# Altium integrated library Linear Technology PMIC-Switching Reg LTC1174-LTC3901.IntLib: 2647 symbols (part 60 of 310)
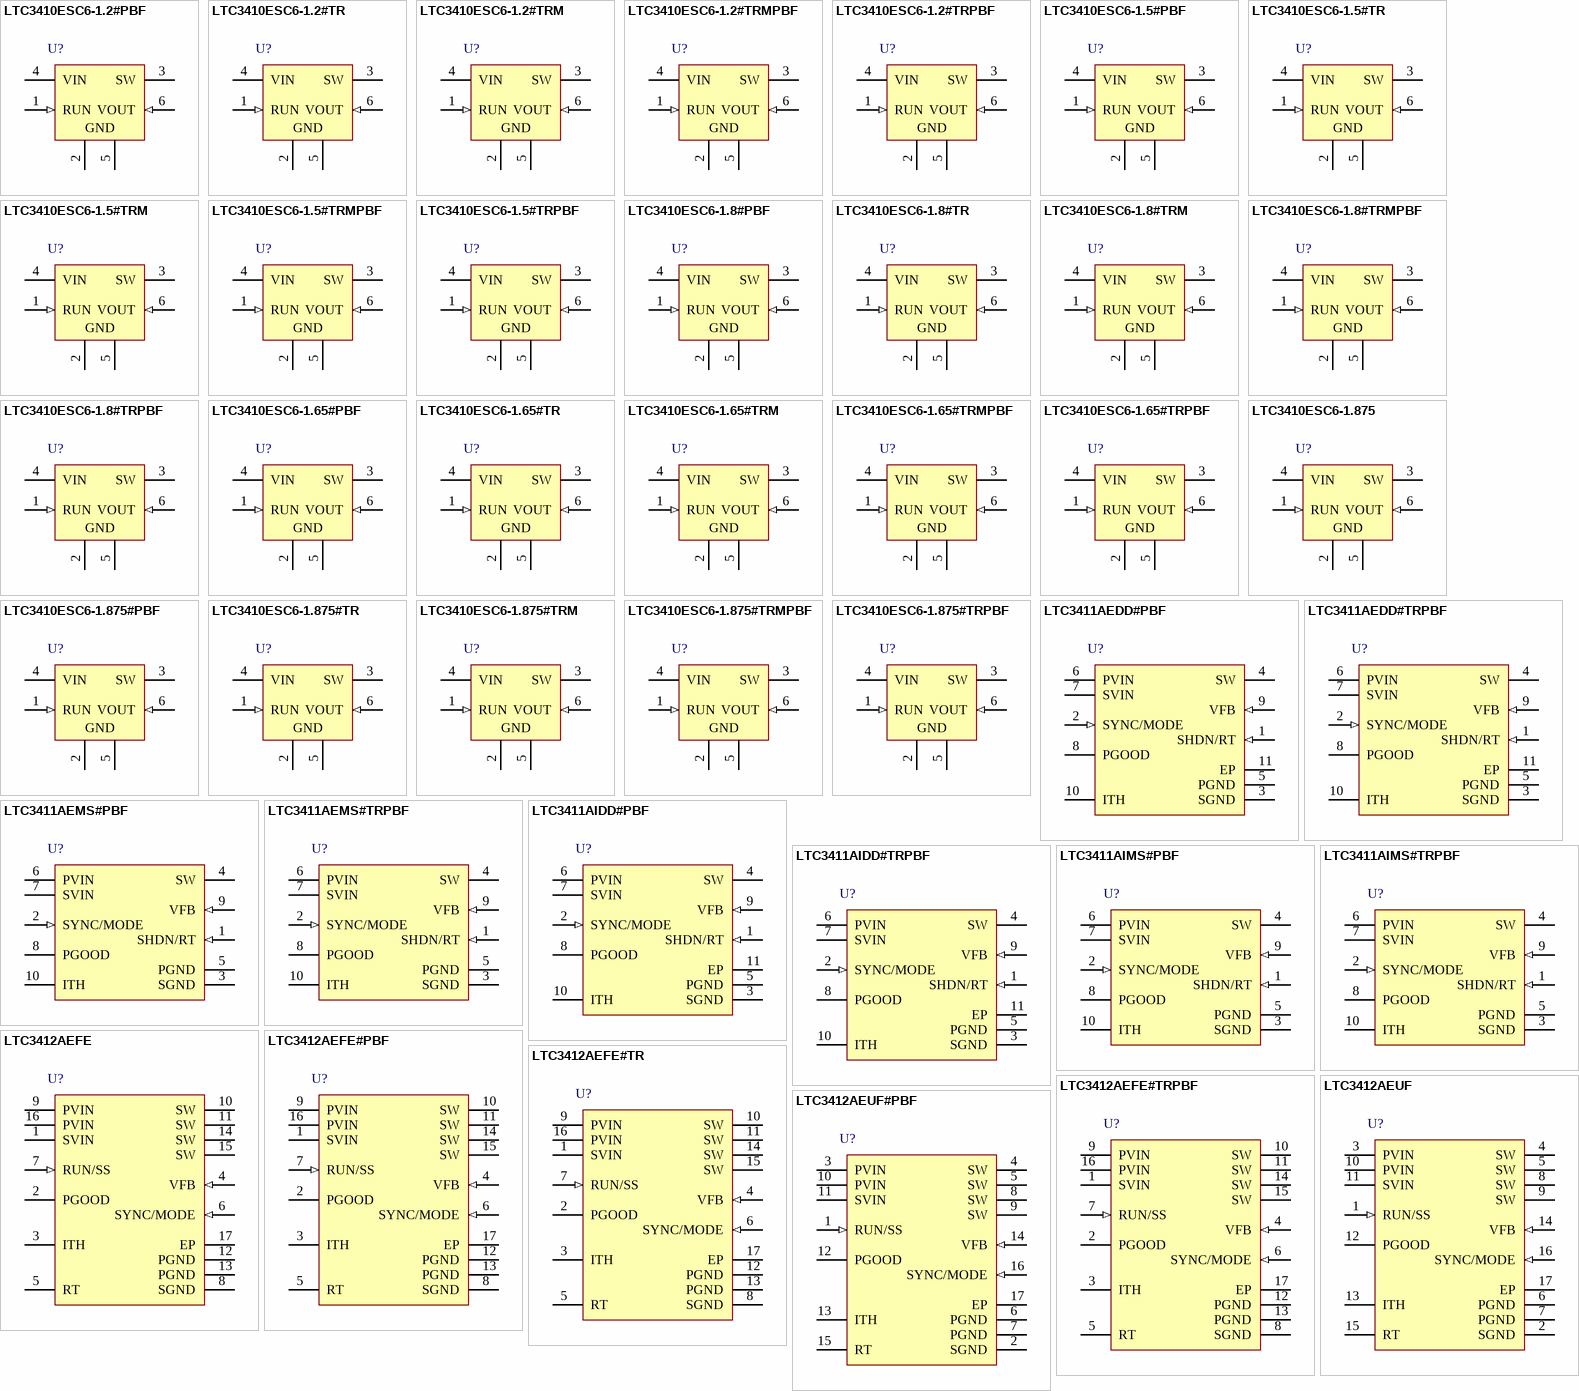
[diagram p250: symbols LTC3410ESC6-1.2#PBF to LTC3412AEUF#PBF]

## LTC3412AEFE#TR
designator U?
3 A, 4 MHz, Monolithic Synchronous Step-Down Regulator, 16-pin SOP (FE-16-EPV-BA), -40 to 125 degC, Tape and Reel; Manufacturer: Linear Technology; PartNumber: LTC3412AEFE#TR; Number of Outputs: 1; PackageReference: FE-16; PackageDescription: 16-Pin Plastic TSSOP, Body 5 x 4.4 mm, Pitch 0.65 mm; Supplier 1: Newark; Supplier Part Number 1: 58M0738; RoHS: FALSE
footprint LT-FE-16-EPV-BA_N (SOP, 16-Leads, Body 5x4.4mm, Pitch 0.65mm, Thermal Pad 2.74x2.74mm, IPC Medium Density)
footprint LT-FE-16-EPV-BA_L (SOP, 16-Leads, Body 5x4.4mm, Pitch 0.65mm, Thermal Pad 2.74x2.74mm, IPC High Density)
footprint LT-FE-16-EPV-BA_M (SOP, 16-Leads, Body 5x4.4mm, Pitch 0.65mm, Thermal Pad 2.74x2.74mm, IPC Low Density)
pins: 1 SVIN (power) "Signal Input Supply. Decouple this pin to SGND with a capacitor.", 2 PGOOD (oc) "Power Good Output. Open-drain logic output that is pulled to ground when the output voltage is not within +/-7.5% of regulation point.", 3 ITH "Error Amplifier Compensation Point. The current comparator threshold increases with this control voltage. Nominal voltage range for this pin is from 0.2V to 1.4V with 0.4V corresponding to the zero-sense voltage (zero (See Datasheet)", 4 VFB (in) "Feedback Pin. Receives the feedback voltage from a resistive divider connected across the output.", 5 RT "Oscillator Resistor Input. Connecting a resistor to ground from this pin sets the switching frequency", 6 SYNC/MODE (in) "Mode Select and External Clock Synchronization Input. To select forced continuous, tie to SVIN. Connecting this pin to a voltage between 0V and 1V selects Burst Mode operation with the burst clamp set to the pin voltage.", 7 RUN/SS (in) "Run Control and Soft-Start Input. Forcing this pin below 0.5V shuts down the LTC3412A. In shutdown all functions are disabled drawing <1uA of  supply current. A capacitor to ground from this pin sets the ramp time to full (See Datasheet)", 8 SGND (power) "Signal Ground. All small-signal components, compensation components and the exposed pad on the bottom side of the IC should connect to this ground, which in turn connects to PGND at one point.", 9 PVIN (power) "Power Input Supply. Decouple this pin to PGND with a capacitor", 10 SW (power) "Switch Node Connection to the Inductor. This pin connects to the drains of the internal main and synchronous power MOSFET switches.", 11 SW (power) "Switch Node Connection to the Inductor. This pin connects to the drains of the internal main and synchronous power MOSFET switches.", 12 PGND (power) "Power Ground. Connect this pin close to the (-) terminal of CIN and COUT.", 13 PGND (power) "Power Ground. Connect this pin close to the (-) terminal of CIN and COUT.", 14 SW (power) "Switch Node Connection to the Inductor. This pin connects to the drains of the internal main and synchronous power MOSFET switches.", 15 SW (power) "Switch Node Connection to the Inductor. This pin connects to the drains of the internal main and synchronous power MOSFET switches.", 16 PVIN (power) "Power Input Supply. Decouple this pin to PGND with a capacitor", 17 EP (power) "Signal Ground. Must be soldered to PCB for electrical connection and rated thermal performance."

## LTC3412AEFE#TRPBF
designator U?
3 A, 4 MHz, Monolithic Synchronous Step-Down Regulator, 16-pin SOP (FE-16-EPV-BA), -40 to 125 degC, Pb-Free, Tape and Reel; Manufacturer: Linear Technology; PartNumber: LTC3412AEFE#TRPBF; Number of Outputs: 1; PackageReference: FE-16; PackageDescription: 16-Pin Plastic TSSOP, Body 5 x 4.4 mm, Pitch 0.65 mm; Supplier 1: Digi-Key; Supplier Part Number 1: LTC3412AEFE#TRPBF-ND; RoHS: TRUE
footprint LT-FE-16-EPV-BA_N (SOP, 16-Leads, Body 5x4.4mm, Pitch 0.65mm, Thermal Pad 2.74x2.74mm, IPC Medium Density)
footprint LT-FE-16-EPV-BA_L (SOP, 16-Leads, Body 5x4.4mm, Pitch 0.65mm, Thermal Pad 2.74x2.74mm, IPC High Density)
footprint LT-FE-16-EPV-BA_M (SOP, 16-Leads, Body 5x4.4mm, Pitch 0.65mm, Thermal Pad 2.74x2.74mm, IPC Low Density)
pins: 1 SVIN (power) "Signal Input Supply. Decouple this pin to SGND with a capacitor.", 2 PGOOD (oc) "Power Good Output. Open-drain logic output that is pulled to ground when the output voltage is not within +/-7.5% of regulation point.", 3 ITH "Error Amplifier Compensation Point. The current comparator threshold increases with this control voltage. Nominal voltage range for this pin is from 0.2V to 1.4V with 0.4V corresponding to the zero-sense voltage (zero (See Datasheet)", 4 VFB (in) "Feedback Pin. Receives the feedback voltage from a resistive divider connected across the output.", 5 RT "Oscillator Resistor Input. Connecting a resistor to ground from this pin sets the switching frequency", 6 SYNC/MODE (in) "Mode Select and External Clock Synchronization Input. To select forced continuous, tie to SVIN. Connecting this pin to a voltage between 0V and 1V selects Burst Mode operation with the burst clamp set to the pin voltage.", 7 RUN/SS (in) "Run Control and Soft-Start Input. Forcing this pin below 0.5V shuts down the LTC3412A. In shutdown all functions are disabled drawing <1uA of  supply current. A capacitor to ground from this pin sets the ramp time to full (See Datasheet)", 8 SGND (power) "Signal Ground. All small-signal components, compensation components and the exposed pad on the bottom side of the IC should connect to this ground, which in turn connects to PGND at one point.", 9 PVIN (power) "Power Input Supply. Decouple this pin to PGND with a capacitor", 10 SW (power) "Switch Node Connection to the Inductor. This pin connects to the drains of the internal main and synchronous power MOSFET switches.", 11 SW (power) "Switch Node Connection to the Inductor. This pin connects to the drains of the internal main and synchronous power MOSFET switches.", 12 PGND (power) "Power Ground. Connect this pin close to the (-) terminal of CIN and COUT.", 13 PGND (power) "Power Ground. Connect this pin close to the (-) terminal of CIN and COUT.", 14 SW (power) "Switch Node Connection to the Inductor. This pin connects to the drains of the internal main and synchronous power MOSFET switches.", 15 SW (power) "Switch Node Connection to the Inductor. This pin connects to the drains of the internal main and synchronous power MOSFET switches.", 16 PVIN (power) "Power Input Supply. Decouple this pin to PGND with a capacitor", 17 EP (power) "Signal Ground. Must be soldered to PCB for electrical connection and rated thermal performance."